# Altium footprint library ResistorAxial.PcbLib: 48 footprints (part 3 of 3)
Each footprint in its own frame and in the unit in brackets; x right, y up, seen from the top. Pads: shape width x height; smd on the part's side, far side on the other; paste and mask are expansions set on the pad; w line width, h text height; cw(c..) or ccw(c..) is an arc to the next point about the centre after c.
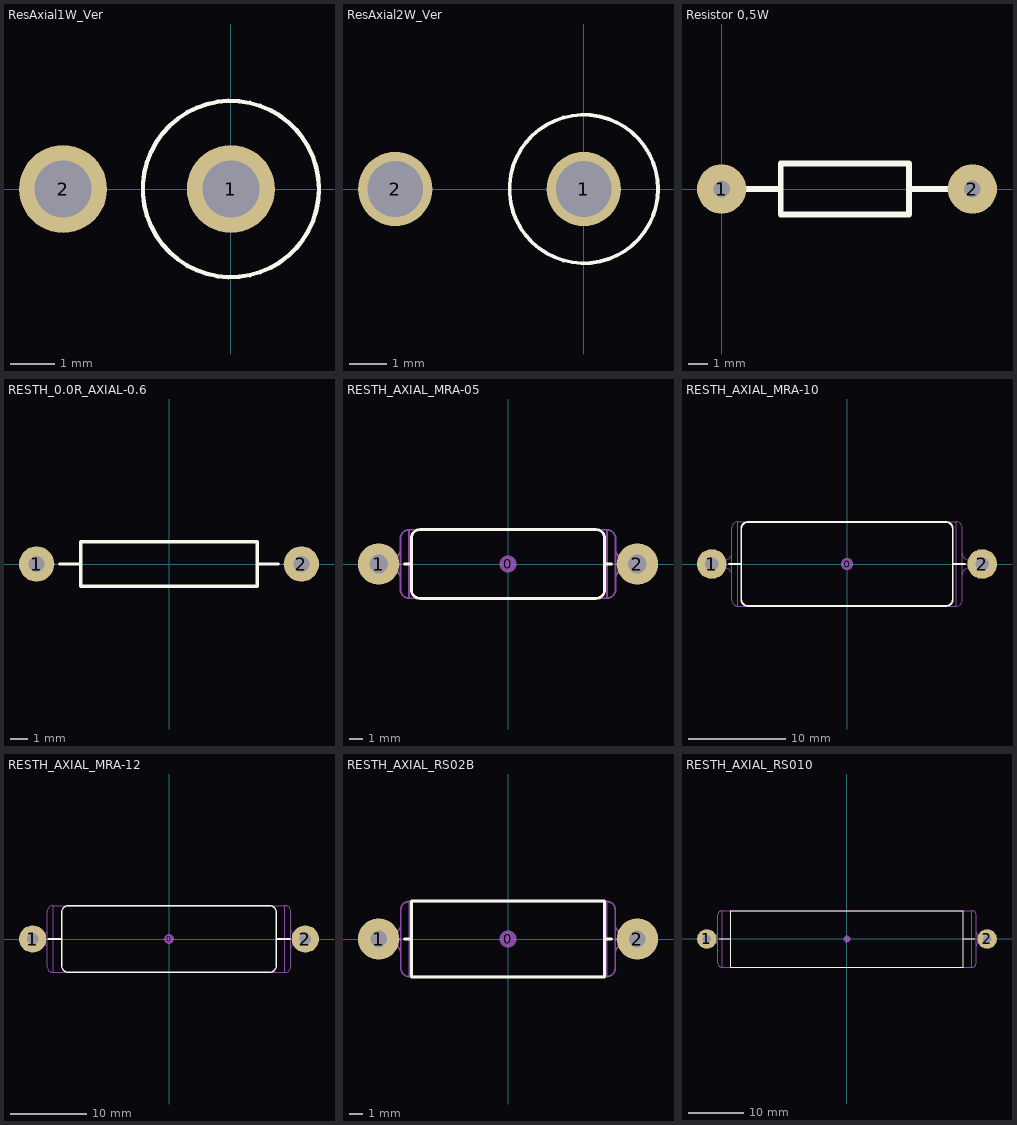
[diagram p2: the footprints below, top view; thin cyan lines are the x and y axes]

## ResAxial0.125W_Ver [mm]

## ResAxial1W [mm]

## ResAxial1W_Ver [mm]
pads (2):
  round 2 hole 1.3: 1(0,0) 2(-3.81,0)
Top Overlay:
  circle w0.1: c0,0 r2
3D body "User Library-Resistor KNP-100.step": height 16.4, standoff -3, extent -4.4,-2.01 2.01,2.01

## ResAxial2W [mm]

## ResAxial2W_Ver [mm]
pads (2):
  round 2 hole 1.5: 1(0,0) 2(-5.08,0)
Top Overlay:
  circle w0.1: c0,0 r2
3D body "User Library-RESISTOR_2W.step": height 13.74, standoff -2, extent -5.4,-1.753 1.754,1.754

## ResAxial3W [mm]

## ResAxial3W_Ver [mm]

## ResAxial5W [mm]

## ResAxial5W_Ver [mm]

## Resistor 0,5W [mm]
pads (2):
  round 2.5 hole 0.85: 1(0,0) 2(12.725,0)
Top Overlay:
  lines w0.3: 0,0 3,0 ; 12.725,0 9.5,0 ; 3,0 3,-1.3 9.5,-1.3 9.5,0 ; 3,0 3,1.3 9.5,1.3 9.5,0
3D body "Res50-Axial 0_5W-1M.step": height 5.38, standoff -4, extent -0.4,-1.875 13.05,1.875

## RESTH_0.0R_AXIAL-0.6 [mil] "Axial Resistor 0 Ohm, Thru-Hole; 2 Leads; 0.6 in Pin Spacing"
height 102.36
pads (2):
  round 80 hole 36: 1(-300,0) 2(300,0)
Top Overlay:
  lines w7.87: -248.03,0 -200,0 ; 200,0 248.03,0 ; -200,-50 200,-50 200,50 -200,50 -200,-50
3D body "Res_Axial_0.6.STEP": height 102.76, standoff -98.43, extent -311.8,-51.57 311.82,51.58

## RESTH_AXIAL_MRA-05 [mil] "MRA-05 Axial Resistor Thru-Hole; 2 Leads"
height 198
pads (3):
  round 50 on Mech15: 0(0,0)
  round 120 hole 54: 1(-375,0) 2(375,0)
Top Overlay:
  lines w7.87: -300,0 -280,0 ; 280,0 300,0 ; -280,-75 ccw(c-255,-75) -255,-100 255,-100 ccw(c255,-75) 280,-75 280,75 ccw(c255,75) 255,100 -255,100 ccw(c-255,75) -280,75 -280,-75
Mechanical 13:
  lines w5: -337,-16.89 -337,17 ; -312,-42 ccw(c-337,-42) -337,-17 -375,-17 cw(c-375,0) -375,17 -337,17 ; -312,42 cw(c-337,42) -337,17 ; 312,-42 cw(c337,-42) 337,-17 ; 312,42 ccw(c337,42) 337,17 375,17 cw(c375,0) 375,-17 337,-17 ; 337,16.89 337,-17 ; -341,-16.98 -341,-16.52 -341,-15.46 -341,-13.85 -341,-11.73 -341,-9.19 -341,-6.32 -341,-3.22 -341,0 -341,3.22 -341,6.32 -341,9.19 -341,11.73 -341,13.85 -341,15.46 -341,16.52 -341,16.98 ; -341,-17 -341,-16.98 ; -341,16.98 -341,17 ; -287,-99 cw(c-287,-74) -312,-74 -312,74 cw(c-287,74) -287,99 ; -287,-99 -287,99 ; -287,-99 287,-99 ; -287,99 287,99 ; 287,-99 ccw(c287,-74) 312,-74 312,74 ccw(c287,74) 287,99 ; 287,-99 287,99 ; 341,-16.98 341,-16.52 341,-15.46 341,-13.85 341,-11.73 341,-9.19 341,-6.32 341,-3.22 341,0 341,3.22 341,6.32 341,9.19 341,11.73 341,13.85 341,15.46 341,16.52 341,16.98 ; 341,-17 341,-16.98 ; 341,16.98 341,17
3D body "Power Res MRA-05.STEP": height 197.22, standoff -100, extent -391.99,-98.8 392.01,98.81

## RESTH_AXIAL_MRA-10 [mil] "MRA-10 Axial Resistor Thru-Hole; 2 Leads"
height 343
pads (3):
  round 50 on Mech15: 0(0,0)
  round 120 hole 54: 1(-550,0) 2(550,0)
Top Overlay:
  lines w7.87: -480,0 -430,0 ; 430,0 480,0 ; -430,-145 ccw(c-405,-145) -405,-170 405,-170 ccw(c405,-145) 430,-145 430,145 ccw(c405,145) 405,170 -405,170 ccw(c-405,145) -430,145 -430,-145
Mechanical 13:
  lines w5: -516,-17 -516,17 ; -493.5,-16.89 -493.5,17 ; -468.5,-42 ccw(c-493.5,-42) -493.5,-17 -550,-17 cw(c-550,0) -550,17 -493.5,17 ; -468.5,42 cw(c-493.5,42) -493.5,17 ; 468.5,-42 cw(c493.5,-42) 493.5,-17 ; 468.5,42 ccw(c493.5,42) 493.5,17 550,17 cw(c550,0) 550,-17 493.5,-17 ; 493.5,16.89 493.5,-17 ; 516,-17 516,17 ; -443.5,-171.5 cw(c-443.5,-146.5) -468.5,-146.5 -468.5,146.5 cw(c-443.5,146.5) -443.5,171.5 ; -443.5,-171.5 443.5,-171.5 ; -443.5,-171.5 -443.5,171.5 ; -443.5,171.5 443.5,171.5 ; 443.5,-171.5 ccw(c443.5,-146.5) 468.5,-146.5 468.5,146.5 ccw(c443.5,146.5) 443.5,171.5 ; 443.5,-171.5 443.5,171.5
3D body "Power Res MRA-10.STEP": height 341.65, standoff -100, extent -566.99,-171.16 567,171.17

## RESTH_AXIAL_MRA-12 [mil] "MRA-12 Axial Resistor Thru-Hole; 2 Leads"
height 343
pads (3):
  round 50 on Mech15: 0(0,0)
  round 140 hole 60: 1(-700,0) 2(700,0)
Top Overlay:
  lines w7.87: -620,0 -550,0 ; 550,0 620,0 ; -550,-139.99 ccw(c-520,-139.99) -520,-169.99 520,-170 ccw(c519.99,-139.99) 549.99,-139.99 550,140 ccw(c519.99,140) 519.99,170 -520,170 ccw(c-520,140) -550,140 -550,-140
Mechanical 13:
  lines w5: -666,-17 -666,17 ; -625,-47 ccw(c-655,-47) -655,-17 ; -625,47 cw(c-655,47) -655,17 ; 625,-47 cw(c655,-47) 655,-17 ; 625,47 ccw(c655,47) 655,17 ; 666,-17 666,17 ; -655,-17 -655,17 ; -655,-17 -700,-17 cw(c-700,0) -700,17 -655,17 ; -595,-171.5 cw(c-595,-141.5) -625,-141.5 -625,141.5 cw(c-595,141.5) -595,171.5 ; -595,-171.5 -595,171.5 ; -595,-171.5 595,-171.5 ; -595,171.5 595,171.5 ; 595,-171.5 ccw(c595,-141.5) 625,-141.5 625,141.5 ccw(c595,141.5) 595,171.5 ; 595,-171.5 595,171.5 ; 655,-17 655,17 ; 655,-17 700,-17 ccw(c700,0) 700,17 655,17
3D body "Power Res MRA-12.STEP": height 341.65, standoff -100, extent -717,-171.15 717,171.17

## RESTH_AXIAL_RS02B [mil] "Axial Resistor Thru-Hole; 2 Leads"
height 218
pads (3):
  round 50 on Mech15: 0(0,0)
  round 120 hole 48: 1(-375,0) 2(375,0)
Top Overlay:
  lines w7.87: -300,0 -280,0 ; 280,0 300,0 ; -280,-110 -280,110 280,110 280,-110 -280,-110
Mechanical 13:
  lines w5: -341,-17 -341,17 ; -311,-42 ccw(c-336,-42) -336,-17 ; -311,42 cw(c-336,42) -336,17 ; 311,-42 cw(c336,-42) 336,-17 ; 311,42 ccw(c336,42) 336,17 ; 341,-17 341,17 ; -336,-17 -375,-17 cw(c-375,0) -375,17 -336,17 ; -336,-17 -336,17 ; -286,-109 cw(c-286,-84) -311,-84 -311,84 cw(c-286,84) -286,109 ; -286,-109 286,-109 ; -286,-109 -286,109 ; -286,109 286,109 ; 286,-109 ccw(c286,-84) 311,-84 311,84 ccw(c286,84) 286,109 ; 286,-109 286,109 ; 336,-17 375,-17 ccw(c375,0) 375,17 336,17 ; 336,-17 336,17
3D body "Power Res RS02B.STEP": height 217.14, standoff -100, extent -392,-108.78 392,108.79

## RESTH_AXIAL_RS010 [mil] "Axial Resistor Thru-Hole; 2 Leads"
height 406
pads (3):
  round 50 on Mech15: 0(0,0)
  round 140 hole 60: 1(-1000,0) 2(1000,0)
Top Overlay:
  lines w7.87: -910,0 -830,0 ; 830,0 910,0 ; -830,-200 830,-200 830,200 -830,200 -830,-200
Mechanical 13:
  lines w5: -958,-21 -958,21 ; -921,-51 ccw(c-951,-51) -951,-21 ; -921,51 cw(c-951,51) -951,21 ; 921,-51 cw(c951,-51) 951,-21 ; 921,51 ccw(c951,51) 951,21 ; 958,-21 958,21 ; -951,-21 -951,21 ; -951,-21 -1000,-21 cw(c-1000,0) -1000,21 -951,21 ; -891,-203 cw(c-891,-173) -921,-173 -921,173 cw(c-891,173) -891,203 ; -891,-203 -891,203 ; -891,-203 891,-203 ; -891,203 891,203 ; 891,-203 ccw(c891,-173) 921,-173 921,173 ccw(c891,173) 891,203 ; 891,-203 891,203 ; 951,-21 951,21 ; 951,-21 1000,-21 ccw(c1000,0) 1000,21 951,21
3D body "Power Res RS010.STEP": height 404.4, standoff -100, extent -1020.99,-202.59 1021,202.61